# Altium footprint library CONN HEADER VERT 10POS.PcbLib: 1 footprints
Each footprint in its own frame and in the unit in brackets; x right, y up, seen from the top. Pads: shape width x height; smd on the part's side, far side on the other; paste and mask are expansions set on the pad; w line width, h text height; cw(c..) or ccw(c..) is an arc to the next point about the centre after c.
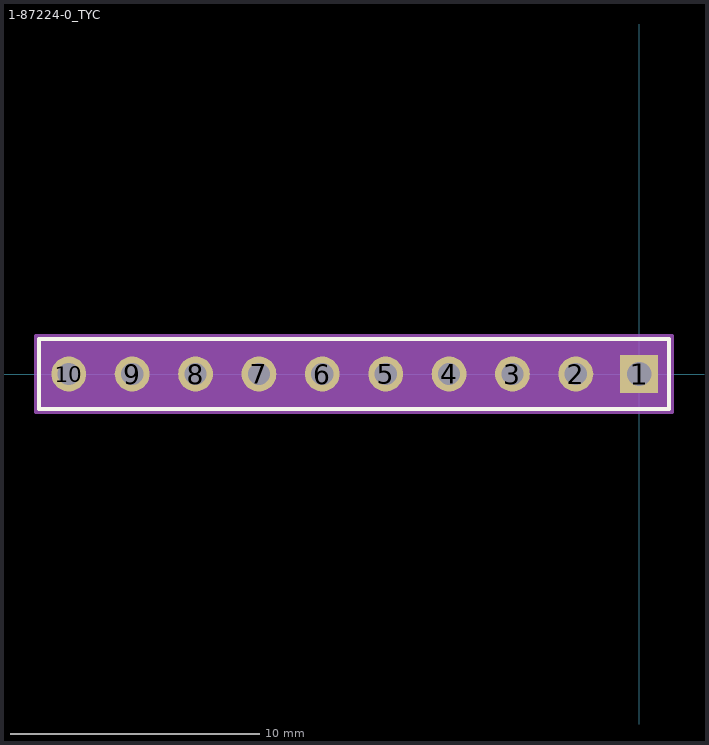
[diagram p0: the footprint, top view; thin cyan lines are the x and y axes]

## 1-87224-0_TYC [mil]
pads (10):
  rect 60x60 hole 38 mask+0: 1(0,0)
  round 55 hole 35 mask+0: 2(-100,0) 3(-200,0) 4(-300,0) 5(-400,0) 6(-500,0) 7(-600,0) 8(-700,0) 9(-800,0) 10(-900,0)
Top Overlay:
  lines w6: -947,-55 -947,55 47,55 47,-55 -947,-55
Mechanical 5:
  region: 49.5,-57.5 -949.5,-57.5 -949.5,57.5 49.5,57.5
Mechanical 13:
  lines w1: -942,-50 -942,50 42,50 42,-50 -942,-50
Mechanical 15:
  region: 52,60 -952,60 -952,-60 52,-60
  lines w6: -952,-60 -952,60 52,60 52,-60 -952,-60
3D body "1-87224-0_TYC.step": height 90, standoff -200, extent -950,-50 50,50